# EAGLE library part REF192GRUZ (library EagleParts)
Precision Micropower,Low Dropout Voltage References
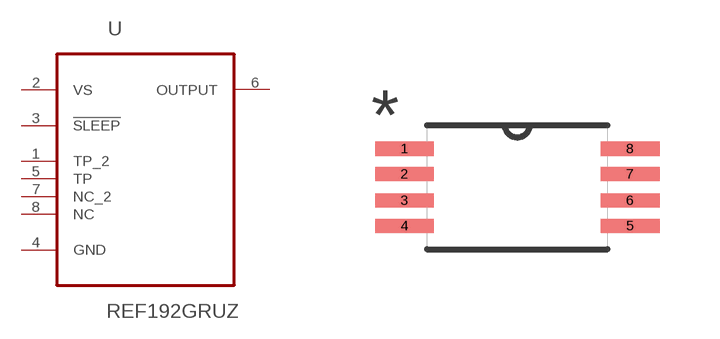
[diagram p2: symbol with the pads of SOP65P640X120-8N; footprint SOP65P640X120-8N]

Designator prefix U

## REF192GRUZ (MPN: REF192GRUZ; OC_FARNELL: 2102504; OC_NEWARK: 19M8998; PACKAGE: TSSOP-8; SUPPLIER: Analog Devices)  [SOP65P640X120-8N]
1  TP_2  nc
2  VS  pwr
3  !SLEEP  in
4  GND  pas
5  TP  nc
6  OUTPUT  out
7  NC_2  nc
8  NC  nc

## Footprint SOP65P640X120-8N (pad centres in mm)
smd 1.473 x 0.356: 1 -2.819,0.965; 2 -2.819,0.33; 3 -2.819,-0.33; 4 -2.819,-0.965; 5 2.819,-0.965; 6 2.819,-0.33; 7 2.819,0.33; 8 2.819,0.965